# EAGLE library part ALPS_EC11E1820402 (library ALPS - EC11E1820402)
Incremental Type Encoder, 11mm Size Metal Shaft Type EC11
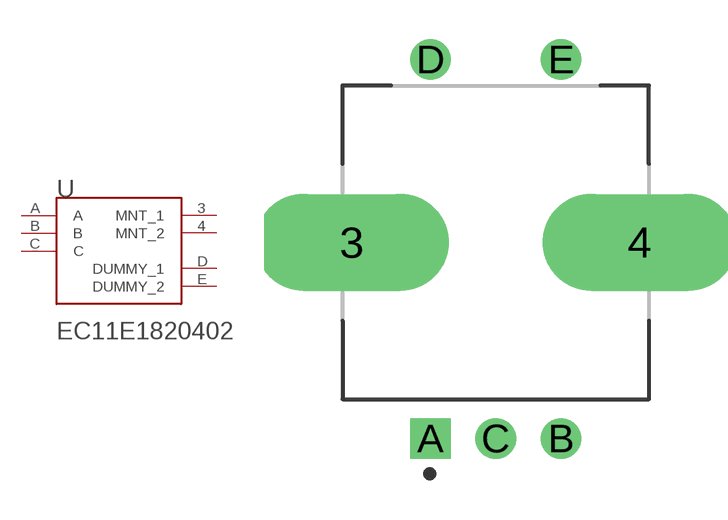
[diagram p0: symbol with the pads of ALPS_EC11E1820402_0; footprint ALPS_EC11E1820402_0]

Designator prefix U

## ALPS_EC11E1820402ALPS_EC11E1820402_0_0 (CENTROID_NOT_SPECIFIED: No; CURRENT_RATING: 10mA; DATASHEET: http://www.alps.com/prod/info/E/HTML/Encoder/Incremental/EC11/EC11E1820402.html; LEAD_FREE: yes; MF: ALPS; MOUSER_PART_NUMBER: 688-EC11E1820402; MPN: EC11E1820402; NUMBER_OF_DETENT: 36; NUMBER_OF_PULSE: 18; OPERATING_LIFE: 15000; PACKAGE: PTH_ENC_13MM5_11MM7; PREFIX: U; ROHS: yes; TEMPERATURE_RANGE_HIGH: +85°C; TEMPERATURE_RANGE_LOW: -40°C; VOLTAGE: 5VDC)  [ALPS_EC11E1820402_0]
3  MNT_1
4  MNT_2
A  A
B  B
C  C
D  DUMMY_1
E  DUMMY_2

## Footprint ALPS_EC11E1820402_0 (pad centres in mm)
Incremental Type Encoder, 11mm Size Metal Shaft Type EC11
drill 2.7 pad 2.9 long: 3 -5.5,0; 4 5.5,0
drill 1 pad 1.55 square: A -2.5,-7.5
drill 1 pad 1.55: B 2.5,-7.5; C 0,-7.5; D -2.5,7; E 2.5,7